# Altium schematic symbol library connectors.SchLib: 8 symbols
Pins are listed as number, name and electrical type; pins without a type are passive.

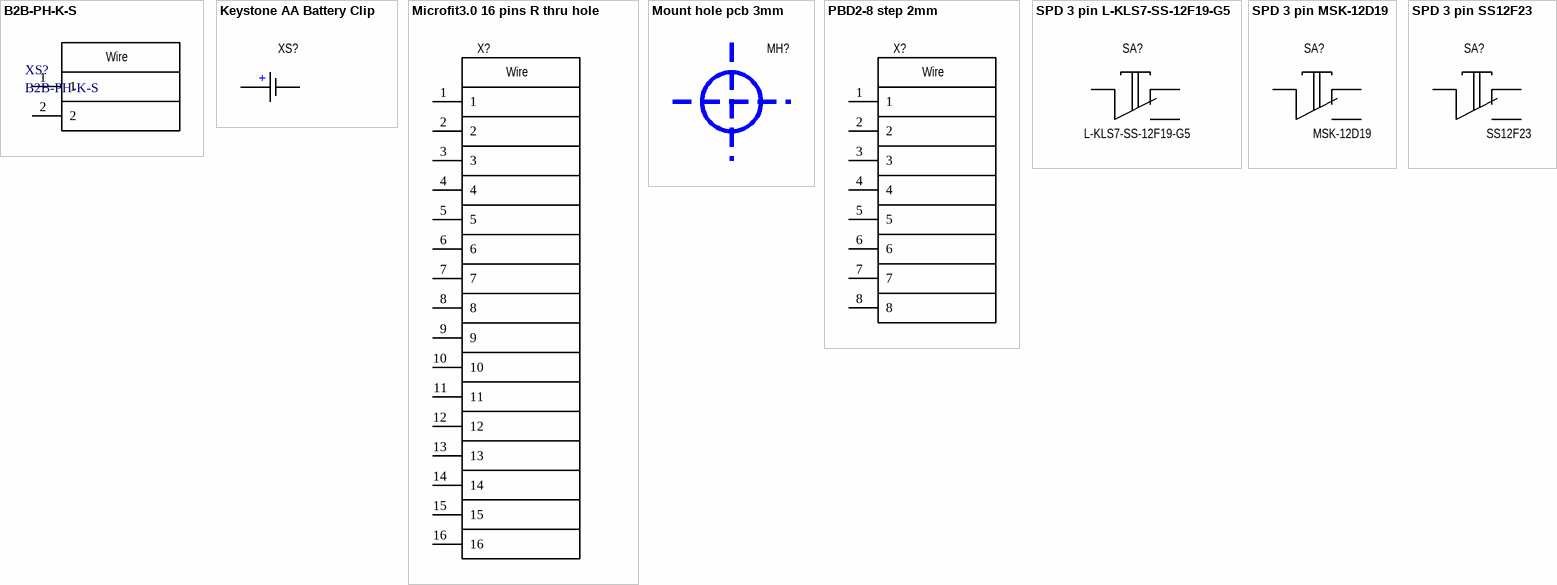
[diagram p0: symbols B2B-PH-K-S to SPD 3 pin SS12F23]

## B2B-PH-K-S
designator XS?
PartNumber: 455-1704-ND; WebLink: https://www.chipdip.ru/product/b2b-ph-k-s-lf-sn; Supplier: digikey; Unit Price: 0.17$
footprint B2B-PH-K-S
pins: 1, 2
text: Wire

## Keystone AA Battery Clip
designator XS?
Button Contact; PartNumber: 455-1704-ND; Supplier: Digikey; WebLink: https://uk.rs-online.com/web/p/battery-holders-mounts/1726012/
footprint KEYSTONE AA CLIPS
pins: 1 + "Plus", 2 "Minus"

## Microfit3.0 16 pins R thru hole
designator X?
Step 3mm, dual row 16 pins, thru hole; PartNumber: 43045-1601 molex; Supplier: Chipdip; Unit Price: 450; WebLink: https://www.chipdip.ru/product/43045-1601
footprint microfit30_16
pins: 1, 2, 3, 4, 5, 6, 7, 8, 9, 10, 11, 12, 13, 14, 15, 16
text: Wire

## Mount hole pcb 3mm
designator MH?
PCB mount hole
footprint mount holes 3mm

## PBD2-8 step 2mm
designator X?, comment DS-1026-06 2X4  (value not drawn)
Step 2mm 2x4 height 4.3mm
footprint PBD2-8 2mm
pins: 1, 2, 3, 4, 5, 6, 7, 8
text: Wire

## SPD 3 pin L-KLS7-SS-12F19-G5
designator SA?, comment L-KLS7-SS-12F19-G5
Slide switch 3 pin; PartNumber: L-KLS7-SS-12F19-G5
footprint L-KLS7-SS-12F19-G5
pins: 1, 2, 3

## SPD 3 pin MSK-12D19
designator SA?, comment MSK-12D19
Slide switch 3 pin; PartNumber: MSK-12D19
footprint MSK-12D19 SPDT
pins: 1, 2, 3

## SPD 3 pin SS12F23
designator SA?, comment SS12F23
Slide switch 3 pin; PartNumber: SS12F23EG5-G; Supplier: Chipdipc; Unit Price: 86; WebLink: https://www.chipdip.ru/product1/8447061189
footprint SS12F23
pins: 1, 2, 3